# Altium integrated library WE-DCT_rev15a (1).intlib: 14 symbols
Pins are listed as number, name and electrical type; pins without a type are passive.

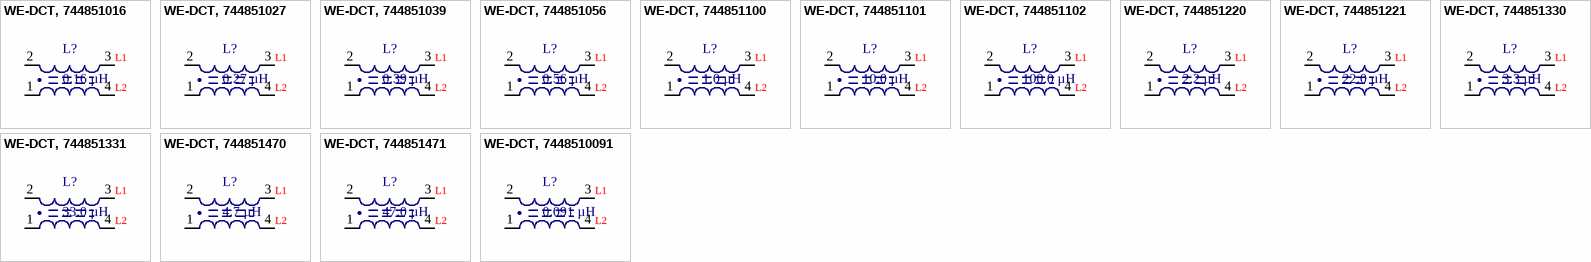
[diagram p0: symbols WE-DCT, 744851016 to WE-DCT, 7448510091]

## WE-DCT, 744851016
designator L?, comment 0.16 µH
SMD Shielded Coupled Inductor WE-DCT, L=0.16 µH; PartNo: 744851016; Manufacturer: Würth Elektronik eiSos GmbH; Inductance: 0.16 µH; ComponentLink1Description: Manufacturer; ComponentLink1URL: http://www.we-online.de; Created by: Christin Zierenner; Created Date: Jan 2013; ComponentLink2Description: Datasheet; ComponentLink2URL: http://katalog.we-online.de/pbs/datasheet/744851016.pdf
footprint WE-DCT TYPE-SH (SMD INDUCTOR, 4-Leads, Body 18.5x23.5mm (max), Pitch 5.00mm)
pins: 1, 2, 3, 4
text: L1; L2

## WE-DCT, 744851027
designator L?, comment 0.27 µH
SMD Shielded Coupled Inductor WE-DCT, L=0.27 µH; PartNo: 744851027; Manufacturer: Würth Elektronik eiSos GmbH; Inductance: 0.27 µH; ComponentLink1Description: Manufacturer; ComponentLink1URL: http://www.we-online.de; Created by: Christin Zierenner; Created Date: Jan 2013; ComponentLink2Description: Datasheet; ComponentLink2URL: http://katalog.we-online.de/pbs/datasheet/744851027.pdf
footprint WE-DCT TYPE-SH (SMD INDUCTOR, 4-Leads, Body 18.5x23.5mm (max), Pitch 5.00mm)
pins: 1, 2, 3, 4
text: L1; L2

## WE-DCT, 744851039
designator L?, comment 0.39 µH
SMD Shielded Coupled Inductor WE-DCT, L=0.39 µH; PartNo: 744851039; Manufacturer: Würth Elektronik eiSos GmbH; Inductance: 0.39 µH; ComponentLink1Description: Manufacturer; ComponentLink1URL: http://www.we-online.de; Created by: Christin Zierenner; Created Date: Jan 2013; ComponentLink2Description: Datasheet; ComponentLink2URL: http://katalog.we-online.de/pbs/datasheet/744851039.pdf
footprint WE-DCT TYPE-SH (SMD INDUCTOR, 4-Leads, Body 18.5x23.5mm (max), Pitch 5.00mm)
pins: 1, 2, 3, 4
text: L1; L2

## WE-DCT, 744851056
designator L?, comment 0.56 µH
SMD Shielded Coupled Inductor WE-DCT, L=0.56 µH; PartNo: 744851056; Manufacturer: Würth Elektronik eiSos GmbH; Inductance: 0.56 µH; ComponentLink1Description: Manufacturer; ComponentLink1URL: http://www.we-online.de; Created by: Christin Zierenner; Created Date: Jan 2013; ComponentLink2Description: Datasheet; ComponentLink2URL: http://katalog.we-online.de/pbs/datasheet/744851056.pdf
footprint WE-DCT TYPE-SH (SMD INDUCTOR, 4-Leads, Body 18.5x23.5mm (max), Pitch 5.00mm)
pins: 1, 2, 3, 4
text: L1; L2

## WE-DCT, 744851100
designator L?, comment 1.0 µH
SMD Shielded Coupled Inductor WE-DCT, L=1.0 µH; PartNo: 744851100; Manufacturer: Würth Elektronik eiSos GmbH; Inductance: 1.0 µH; ComponentLink1Description: Manufacturer; ComponentLink1URL: http://www.we-online.de; Created by: Christin Zierenner; Created Date: Jan 2013; ComponentLink2Description: Datasheet; ComponentLink2URL: http://katalog.we-online.de/pbs/datasheet/744851100.pdf
footprint WE-DCT TYPE-SH (SMD INDUCTOR, 4-Leads, Body 18.5x23.5mm (max), Pitch 5.00mm)
pins: 1, 2, 3, 4
text: L1; L2

## WE-DCT, 744851101
designator L?, comment 10.0 µH
SMD Shielded Coupled Inductor WE-DCT, L=10.0 µH; PartNo: 744851101; Manufacturer: Würth Elektronik eiSos GmbH; Inductance: 10.0 µH; ComponentLink1Description: Manufacturer; ComponentLink1URL: http://www.we-online.de; Created by: Christin Zierenner; Created Date: Jan 2013; ComponentLink2Description: Datasheet; ComponentLink2URL: http://katalog.we-online.de/pbs/datasheet/744851101.pdf
footprint WE-DCT TYPE-SH (SMD INDUCTOR, 4-Leads, Body 18.5x23.5mm (max), Pitch 5.00mm)
pins: 1, 2, 3, 4
text: L1; L2

## WE-DCT, 744851102
designator L?, comment 100.0 µH
SMD Shielded Coupled Inductor WE-DCT, L=100.0 µH; PartNo: 744851102; Manufacturer: Würth Elektronik eiSos GmbH; Inductance: 100.0 µH; ComponentLink1Description: Manufacturer; ComponentLink1URL: http://www.we-online.de; Created by: Christin Zierenner; Created Date: Jan 2013; ComponentLink2Description: Datasheet; ComponentLink2URL: http://katalog.we-online.de/pbs/datasheet/744851102.pdf
footprint WE-DCT TYPE-SH (SMD INDUCTOR, 4-Leads, Body 18.5x23.5mm (max), Pitch 5.00mm)
pins: 1, 2, 3, 4
text: L1; L2

## WE-DCT, 744851220
designator L?, comment 2.2 µH
SMD Shielded Coupled Inductor WE-DCT, L=2.2 µH; PartNo: 744851220; Manufacturer: Würth Elektronik eiSos GmbH; Inductance: 2.2 µH; ComponentLink1Description: Manufacturer; ComponentLink1URL: http://www.we-online.de; Created by: Christin Zierenner; Created Date: Jan 2013; ComponentLink2Description: Datasheet; ComponentLink2URL: http://katalog.we-online.de/pbs/datasheet/7448510091.pdf
footprint WE-DCT TYPE-SH (SMD INDUCTOR, 4-Leads, Body 18.5x23.5mm (max), Pitch 5.00mm)
pins: 1, 2, 3, 4
text: L1; L2

## WE-DCT, 744851221
designator L?, comment 22.0 µH
SMD Shielded Coupled Inductor WE-DCT, L=22.0 µH; PartNo: 744851221; Manufacturer: Würth Elektronik eiSos GmbH; Inductance: 22.0 µH; ComponentLink1Description: Manufacturer; ComponentLink1URL: http://www.we-online.de; Created by: Christin Zierenner; Created Date: Jan 2013; ComponentLink2Description: Datasheet; ComponentLink2URL: http://katalog.we-online.de/pbs/datasheet/744851221.pdf
footprint WE-DCT TYPE-SH (SMD INDUCTOR, 4-Leads, Body 18.5x23.5mm (max), Pitch 5.00mm)
pins: 1, 2, 3, 4
text: L1; L2

## WE-DCT, 744851330
designator L?, comment 3.3 µH
SMD Shielded Coupled Inductor WE-DCT, L=3.3 µH; PartNo: 744851330; Manufacturer: Würth Elektronik eiSos GmbH; Inductance: 3.3 µH; ComponentLink1Description: Manufacturer; ComponentLink1URL: http://www.we-online.de; Created by: Christin Zierenner; Created Date: Jan 2013; ComponentLink2Description: Datasheet; ComponentLink2URL: http://katalog.we-online.de/pbs/datasheet/744851330.pdf
footprint WE-DCT TYPE-SH (SMD INDUCTOR, 4-Leads, Body 18.5x23.5mm (max), Pitch 5.00mm)
pins: 1, 2, 3, 4
text: L1; L2

## WE-DCT, 744851331
designator L?, comment 33.0 µH
SMD Shielded Coupled Inductor WE-DCT, L=33.0 µH; PartNo: 744851331; Manufacturer: Würth Elektronik eiSos GmbH; Inductance: 33.0 µH; ComponentLink1Description: Manufacturer; ComponentLink1URL: http://www.we-online.de; Created by: Christin Zierenner; Created Date: Jan 2013; ComponentLink2Description: Datasheet; ComponentLink2URL: http://katalog.we-online.de/pbs/datasheet/744851331.pdf
footprint WE-DCT TYPE-SH (SMD INDUCTOR, 4-Leads, Body 18.5x23.5mm (max), Pitch 5.00mm)
pins: 1, 2, 3, 4
text: L1; L2

## WE-DCT, 744851470
designator L?, comment 4.7 µH
SMD Shielded Coupled Inductor WE-DCT, L=4.7 µH; PartNo: 744851470; Manufacturer: Würth Elektronik eiSos GmbH; Inductance: 4.7 µH; ComponentLink1Description: Manufacturer; ComponentLink1URL: http://www.we-online.de; Created by: Christin Zierenner; Created Date: Jan 2013; ComponentLink2Description: Datasheet; ComponentLink2URL: http://katalog.we-online.de/pbs/datasheet/744851470.pdf
footprint WE-DCT TYPE-SH (SMD INDUCTOR, 4-Leads, Body 18.5x23.5mm (max), Pitch 5.00mm)
pins: 1, 2, 3, 4
text: L1; L2

## WE-DCT, 744851471
designator L?, comment 47.0 µH
SMD Shielded Coupled Inductor WE-DCT, L=47.0 µH; PartNo: 744851471; Manufacturer: Würth Elektronik eiSos GmbH; Inductance: 47.0 µH; ComponentLink1Description: Manufacturer; ComponentLink1URL: http://www.we-online.de; Created by: Christin Zierenner; Created Date: Jan 2013; ComponentLink2Description: Datasheet; ComponentLink2URL: http://katalog.we-online.de/pbs/datasheet/744851471.pdf
footprint WE-DCT TYPE-SH (SMD INDUCTOR, 4-Leads, Body 18.5x23.5mm (max), Pitch 5.00mm)
pins: 1, 2, 3, 4
text: L1; L2

## WE-DCT, 7448510091
designator L?, comment 0.091 µH
SMD Shielded Coupled Inductor WE-DCT, L=0.091 µH; PartNo: 7448510091; Manufacturer: Würth Elektronik eiSos GmbH; Inductance: 0.091 µH; ComponentLink1Description: Manufacturer; ComponentLink1URL: http://www.we-online.de; Created by: Christin Zierenner; Created Date: Jan 2013; ComponentLink2Description: Datasheet; ComponentLink2URL: http://katalog.we-online.de/pbs/datasheet/7448510091.pdf
footprint WE-DCT TYPE-SH (SMD INDUCTOR, 4-Leads, Body 18.5x23.5mm (max), Pitch 5.00mm)
pins: 1, 2, 3, 4
text: L1; L2